# Altium schematic symbol library Control_Module_Symbols.SchLib: 30 symbols
Pins are listed as number, name and electrical type; pins without a type are passive.

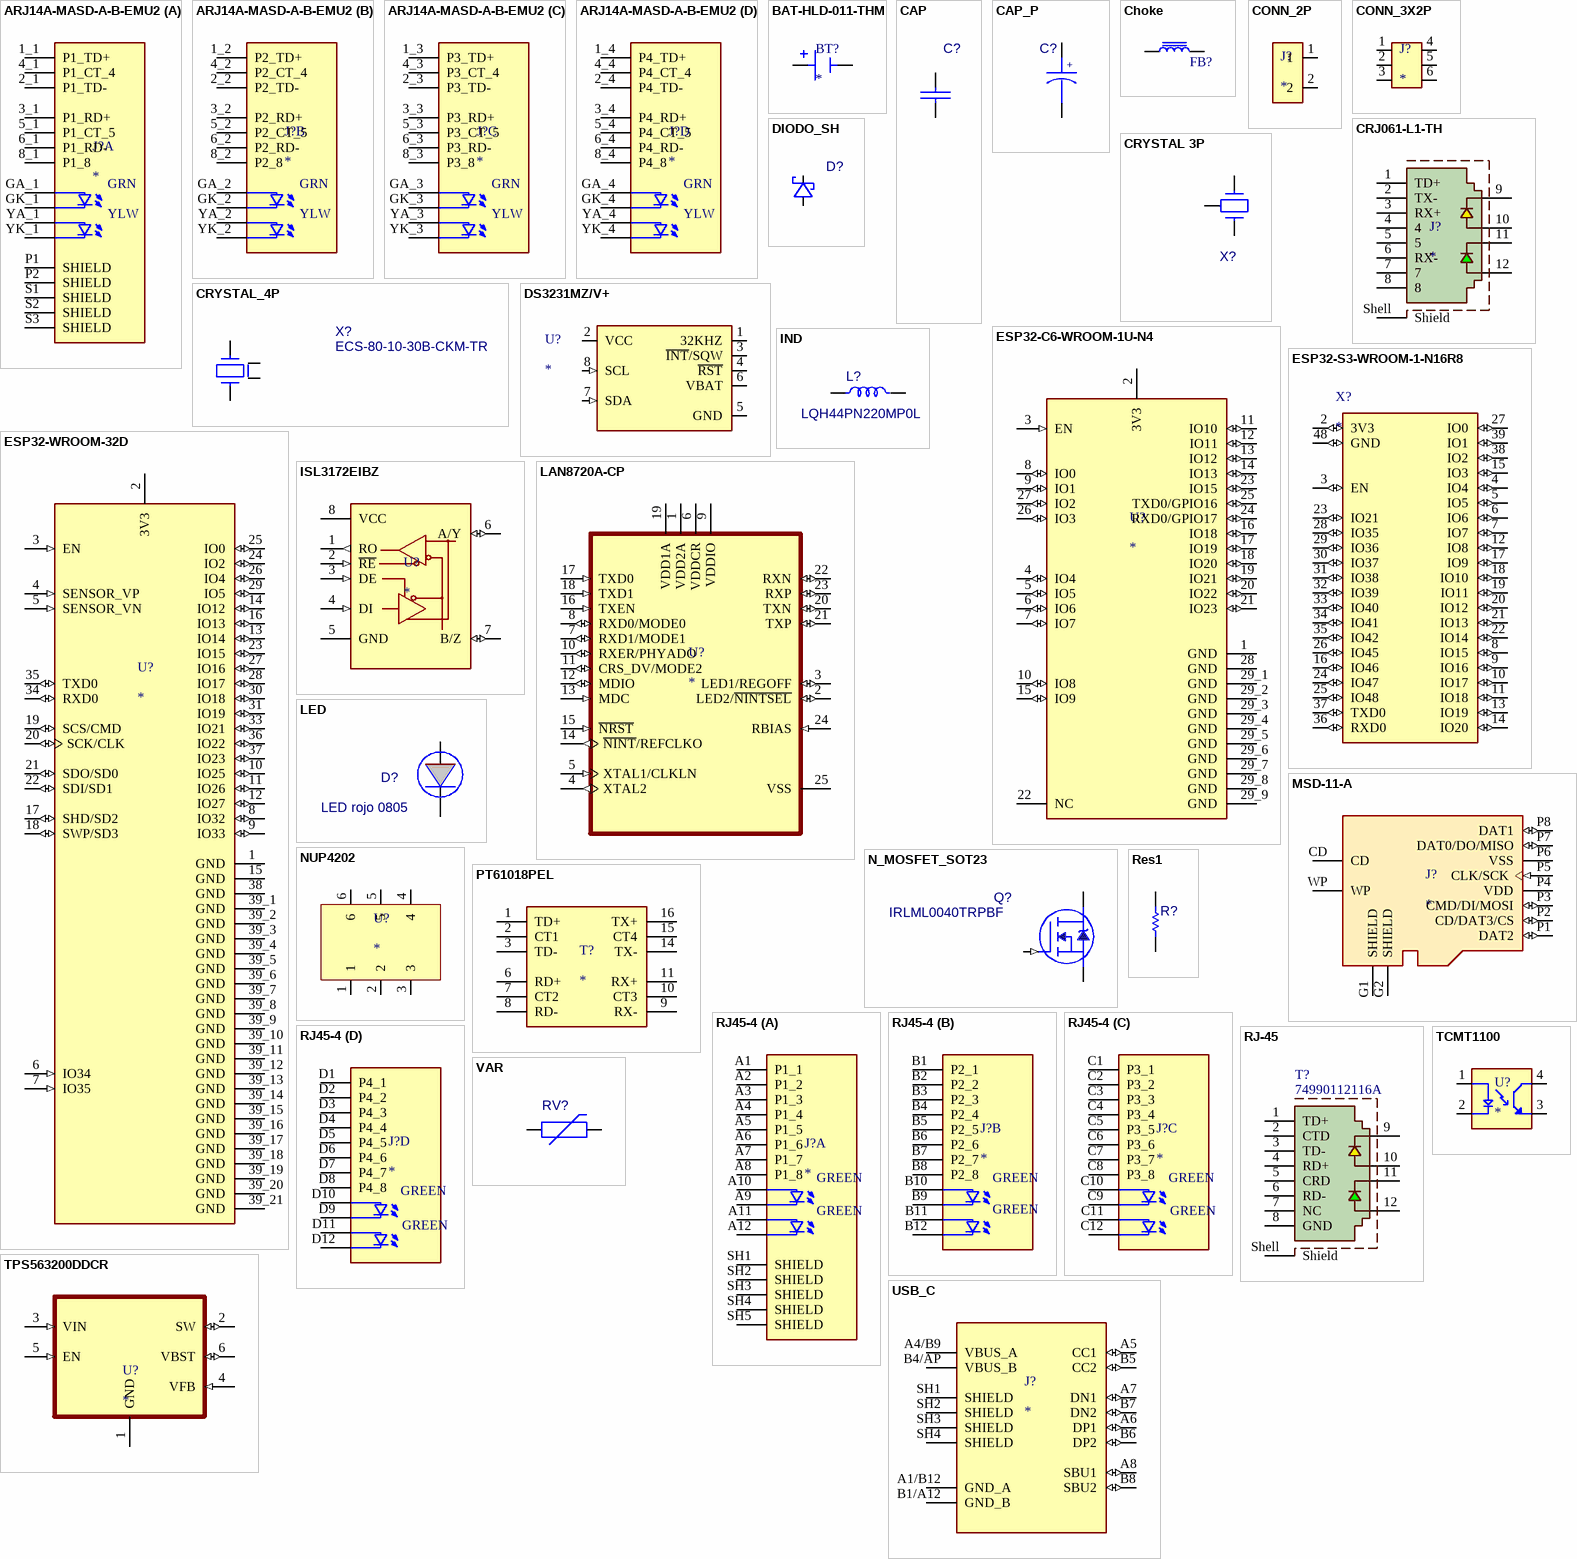
[diagram p0: symbols ARJ14A-MASD-A-B-EMU2 to VAR]

## ARJ14A-MASD-A-B-EMU2
designator J?
4 Port RJ45 Magjack Connector Through Hole 10/100 Base-T, AutoMDIX; MF: Abracon LLC; MP: ARJ14A-MASD-A-B-EMU2; SnapEDA_Link: https://www.snapeda.com/parts/ARJ14A-MASD-A-B-EMU2/Abracon/view-part/?ref=snap; Package: None; Value: *; Check_prices: https://www.snapeda.com/parts/ARJ14A-MASD-A-B-EMU2/Abracon/view-part/?ref=eda
footprint ABRACON_ARJ14A-MASD-A-B-EMU2
part A pins: 1_1 P1_TD+, 2_1 P1_TD-, 3_1 P1_RD+, 4_1 P1_CT_4, 5_1 P1_CT_5, 6_1 P1_RD-, 8_1 P1_8, GA_1, GK_1, P1 SHIELD, P2 SHIELD, S1 SHIELD, S2 SHIELD, S3 SHIELD, YA_1, YK_1
part B pins: 1_2 P2_TD+, 2_2 P2_TD-, 3_2 P2_RD+, 4_2 P2_CT_4, 5_2 P2_CT_5, 6_2 P2_RD-, 8_2 P2_8, GA_2, GK_2, YA_2, YK_2
part C pins: 1_3 P3_TD+, 2_3 P3_TD-, 3_3 P3_RD+, 4_3 P3_CT_4, 5_3 P3_CT_5, 6_3 P3_RD-, 8_3 P3_8, GA_3, GK_3, YA_3, YK_3
part D pins: 1_4 P4_TD+, 2_4 P4_TD-, 3_4 P4_RD+, 4_4 P4_CT_4, 5_4 P4_CT_5, 6_4 P4_RD-, 8_4 P4_8, GA_4, GK_4, YA_4, YK_4
part A text: GRN; YLW
part B text: GRN; YLW
part C text: GRN; YLW
part D text: GRN; YLW

## BAT-HLD-011-THM
designator BT?
Battery Holder Coin 20 SMT Nickel T&R; MF: TE Connectivity; MP: BAT-HLD-011-THM; SnapEDA_Link: https://www.snapeda.com/parts/BAT-HLD-011-THM/TE+Connectivity/view-part/?ref=snap; Package: None; Value: *; Check_prices: https://www.snapeda.com/parts/BAT-HLD-011-THM/TE+Connectivity/view-part/?ref=eda
footprint BAT_BAT-HLD-011-THM
pins: N, P

## CAP
designator C?
Non Polarized Capacitor
pins: 1, 2

## CAP_P
designator C?
Polarized Capacitor
pins: 1, 2
text: +

## Choke
designator FB?
High Frequency EMI Suppression Ferrite Bead; Manufacturer Part Number: 742863160; Manufacturer: Wurth Elektronik; Match Code: WE-CBF HF; Case/Size Code: 0603; DC Resistance: 0.22Ohm; Impedance @100MHz: 600Ohm; Impedance @1GHz: 800Ohm; Impedance Max: 950Ohm; Impedance Max Test Condition: 600MHz; Rated Current: 0.5A; Type: High Current; Category: Ferrites for PCB Assembly; ComponentLink1Description: Website Link; ComponentLink1URL: https://www.we-online.com/redexpert/article/742863160?ad; ComponentLink2Description: Datasheet Link; ComponentLink2URL: https://www.we-online.com/redexpert/spec/742863160?ad; Mount: Surface Mount; Operating Temperature Max: 125°C; Operating Temperature Min: -55°C; Packaging: Tape and Reel; Length: 1.6mm; Width: 0.8mm; Height: 0.8mm
simulation model 0603_742863160_600ohm
pins: 1, 2

## CONN_2P
designator J?
pins: 1, 2

## CONN_3X2P
designator J?
pins: 1, 2, 3, 4, 5, 6

## CRJ061-L1-TH
designator J?
8P8C, Single Port, Vertical, Shielded, LED, Through Hole, RJ45 Modular Connector; MF: Same Sky; MP: CRJ061-L1-TH; SnapEDA_Link: https://www.snapeda.com/parts/CRJ061-L1-TH/Same+Sky/view-part/?ref=snap; Package: None; Value: *; Check_prices: https://www.snapeda.com/parts/CRJ061-L1-TH/Same+Sky/view-part/?ref=eda
footprint CUI_CRJ061-L1-TH
pins: 1 TD+, 2 TX-, 3 RX+, 4, 5, 6 RX-, 7, 8, 9, 10, 11, 12, Shell Shield

## CRYSTAL 3P
designator X?
Crystal 2 Vias + GND
pins: 1, 2, 3

## CRYSTAL_4P
designator X?, comment ECS-80-10-30B-CKM-TR
Crystal 4 Vias + GND
pins: 1, 2, 3, 4

## DIODO_SH
designator D?
Diode Shottky
pins: 1 A, 2 K

## DS3231MZ/V+
designator U?
±5ppm, I2C Real-Time Clock; MF: Analog Devices; MP: DS3231MZ/V+; SnapEDA_Link: https://www.snapeda.com/parts/DS3231MZ/V+/Analog+Devices/view-part/?ref=snap; Package: SOIC-8 Maxim; Value: *; Check_prices: https://www.snapeda.com/parts/DS3231MZ/V+/Analog+Devices/view-part/?ref=eda
footprint 21-0041B_8
pins: 1 32KHZ, 2 VCC (power), 3 ~{INT}/SQW, 4 ~{RST}, 5 GND (power), 6 VBAT (power), 7 SDA (in), 8 SCL (in)

## ESP32-C6-WROOM-1U-N4
designator U?
802.15.4, Bluetooth, WiFi 802.11ax, Bluetooth v5.3, ZigbeeÂ® Transceiver Module 2.4GHz Antenna Not Included, U.FL Surface Mount; MF: Espressif Systems; MP: ESP32-C6-WROOM-1U-N4; SnapEDA_Link: https://www.snapeda.com/parts/ESP32-C6-WROOM-1U-N4/Espressif+Systems/view-part/?ref=snap; Package: SMD-37 Espressif Systems; Value: *; Check_prices: https://www.snapeda.com/parts/ESP32-C6-WROOM-1U-N4/Espressif+Systems/view-part/?ref=eda
footprint XCVR_ESP32-C6-WROOM-1U-N4
pins: 1 GND (power), 2 3V3 (power), 3 EN (in), 4 IO4 (io), 5 IO5 (io), 6 IO6 (io), 7 IO7 (io), 8 IO0 (io), 9 IO1 (io), 10 IO8 (io), 11 IO10 (io), 12 IO11 (io), 13 IO12 (io), 14 IO13 (io), 15 IO9 (io), 16 IO18 (io), 17 IO19 (io), 18 IO20 (io), 19 IO21 (io), 20 IO22 (io), 21 IO23 (io), 22 NC, 23 IO15 (io), 24 RXD0/GPIO17 (io), 25 TXD0/GPIO16 (io), 26 IO3 (io), 27 IO2 (io), 28 GND (power), 29_1 GND (power), 29_2 GND (power), 29_3 GND (power), 29_4 GND (power), 29_5 GND (power), 29_6 GND (power), 29_7 GND (power), 29_8 GND (power), 29_9 GND (power)

## ESP32-S3-WROOM-1-N16R8
designator X?
Bluetooth, WiFi 802.11b/g/n, Bluetooth v5.0 Transceiver Module 2.4GHz PCB Trace Surface Mount; MF: Espressif Systems; MP: ESP32-S3-WROOM-1-N16R8; SnapEDA_Link: https://www.snapeda.com/parts/ESP32-S3-WROOM-1-N16R8/Espressif+Systems/view-part/?ref=snap; Package: NON STANDARD Espressif Systems; Value: *; Check_prices: https://www.snapeda.com/parts/ESP32-S3-WROOM-1-N16R8/Espressif+Systems/view-part/?ref=eda
footprint ESP32S3WROOM1N8R2
pins: 1 GND (io), 2 3V3 (io), 3 EN (io), 4 IO4 (io), 5 IO5 (io), 6 IO6 (io), 7 IO7 (io), 8 IO15 (io), 9 IO16 (io), 10 IO17 (io), 11 IO18 (io), 12 IO8 (io), 13 IO19 (io), 14 IO20 (io), 15 IO3 (io), 16 IO46 (io), 17 IO9 (io), 18 IO10 (io), 19 IO11 (io), 20 IO12 (io), 21 IO13 (io), 22 IO14 (io), 23 IO21 (io), 24 IO47 (io), 25 IO48 (io), 26 IO45 (io), 27 IO0 (io), 28 IO35 (io), 29 IO36 (io), 30 IO37 (io), 31 IO38 (io), 32 IO39 (io), 33 IO40 (io), 34 IO41 (io), 35 IO42 (io), 36 RXD0 (io), 37 TXD0 (io), 38 IO2 (io), 39 IO1 (io), 40 GND (io), 41 GND (io), 42 GND (io), 43 GND (io), 44 GND (io), 45 GND (io), 46 GND (io), 47 GND (io), 48 GND (io), 49 GND (io)

## ESP32-WROOM-32D
designator U?
Bluetooth, WiFi 802.11b/g/n, Bluetooth v4.2 +EDR, Class 1, 2 and 3 Transceiver Module 2.4GHz ~ 2.5GHz Integrated; MF: Espressif Systems; MP: ESP32-WROOM-32D; SnapEDA_Link: https://www.snapeda.com/parts/ESP32-WROOM-32D/Espressif+Systems/view-part/?ref=snap; Package: Non Standard Espressif Systems; Value: *; Check_prices: https://www.snapeda.com/parts/ESP32-WROOM-32D/Espressif+Systems/view-part/?ref=eda
footprint MODULE_ESP32-WROOM-32D
pins: 1 GND (power), 2 3V3 (power), 3 EN (in), 4 SENSOR_VP (in), 5 SENSOR_VN (in), 6 IO34 (in), 7 IO35 (in), 8 IO32 (io), 9 IO33 (io), 10 IO25 (io), 11 IO26 (io), 12 IO27 (io), 13 IO14 (io), 14 IO12 (io), 15 GND (power), 16 IO13 (io), 17 SHD/SD2 (io), 18 SWP/SD3 (io), 19 SCS/CMD (io), 20 SCK/CLK (io), 21 SDO/SD0 (io), 22 SDI/SD1 (io), 23 IO15 (io), 24 IO2 (io), 25 IO0 (io), 26 IO4 (io), 27 IO16 (io), 28 IO17 (io), 29 IO5 (io), 30 IO18 (io), 31 IO19 (io), 33 IO21 (io), 34 RXD0 (io), 35 TXD0 (io), 36 IO22 (io), 37 IO23 (io), 38 GND (power), 39_1 GND (power), 39_2 GND (power), 39_3 GND (power), 39_4 GND (power), 39_5 GND (power), 39_6 GND (power), 39_7 GND (power), 39_8 GND (power), 39_9 GND (power), 39_10 GND (power), 39_11 GND (power), 39_12 GND (power), 39_13 GND (power), 39_14 GND (power), 39_15 GND (power), 39_16 GND (power), 39_17 GND (power), 39_18 GND (power), 39_19 GND (power), 39_20 GND (power), 39_21 GND (power)

## IND
designator L?, comment LQH44PN220MP0L
Inductor
pins: 1, 2

## ISL3172EIBZ
designator U?
1/1 Transceiver Half RS422, RS485 8-SOIC; MF: Renesas Electronics America Inc; MP: ISL3172EIBZ; SnapEDA_Link: https://www.snapeda.com/parts/ISL3172EIBZ/Renesas/view-part/?ref=snap; Package: SOIC-8 Renesas; Value: *; Check_prices: https://www.snapeda.com/parts/ISL3172EIBZ/Renesas/view-part/?ref=eda
footprint SOIC127P600X175-8N
pins: 1 RO (out), 2 ~{RE} (in), 3 DE (in), 4 DI (in), 5 GND (power), 6 A/Y (io), 7 B/Z (io), 8 VCC (power)

## LAN8720A-CP
designator U?
PHY 1-CH 10Mbps/100Mbps 2.5V/3.3V 24-Pin VQFN EP Tray; MF: Microchip Technology; MP: LAN8720A-CP; SnapEDA_Link: https://www.snapeda.com/parts/LAN8720A-CP/Microchip/view-part/?ref=snap; Package: VFQFN-24 Microchip Technology; Value: *; Check_prices: https://www.snapeda.com/parts/LAN8720A-CP/Microchip/view-part/?ref=eda
footprint QFN50P400X400X100-25N
pins: 1 VDD2A (power), 2 LED2/~{NINTSEL} (io), 3 LED1/REGOFF (io), 4 XTAL2 (out), 5 XTAL1/CLKLN (in), 6 VDDCR (power), 7 RXD1/MODE1 (io), 8 RXD0/MODE0 (io), 9 VDDIO (power), 10 RXER/PHYADO (io), 11 CRS_DV/MODE2 (io), 12 MDIO (io), 13 MDC (in), 14 ~{NINT}/REFCLKO (out), 15 ~{NRST} (in), 16 TXEN (in), 17 TXD0 (in), 18 TXD1 (in), 19 VDD1A (power), 20 TXN (io), 21 TXP (io), 22 RXN (io), 23 RXP (io), 24 RBIAS (in), 25 VSS (power)

## LED
designator D?, comment LED rojo 0805
LED
pins: 1 A, 2 K

## MSD-11-A
designator J?
Micro SD Card Connector, 8 Positions, Connector and Ejector, Push In, Auto Eject Out, Surface Mount, 1.85 mm Heaight Above Board, Gold Flash, JLCPCB PART C693845; MF: Same Sky; MP: MSD-11-A; SnapEDA_Link: https://www.snapeda.com/parts/MSD-11-A/Same+Sky/view-part/?ref=snap; Package: None; Value: *; Check_prices: https://www.snapeda.com/parts/MSD-11-A/Same+Sky/view-part/?ref=eda
footprint CUI_MSD-11-A
pins: CD, G1 SHIELD (power), G2 SHIELD (power), P1 DAT2 (io), P2 CD/DAT3/CS (io), P3 CMD/DI/MOSI (io), P4 VDD (power), P5 CLK/SCK (in), P6 VSS (power), P7 DAT0/DO/MISO (io), P8 DAT1 (io), WP

## N_MOSFET_SOT23
designator Q?, comment IRLML0040TRPBF
Mosfet N-Ch
pins: 1 GATE (in), 2 SOURCE, 3 DRAIN

## NUP4202
designator U?
6A 20V 6V Unidirectional 5V SOT-363 ESD and Surge Protection
pins: 1, 2, 3, 4, 5, 6

## PT61018PEL
designator T?
LAN Transformer, 10/100 Base-Tx, OP -40C to +85C, CUT TAPE | Bourns PT61018PEL; SnapEDA_Link: https://www.snapeda.com/parts/PT61018PEL/Bourns/view-part/?ref=snap; Package: SMD-16 Bourns; Value: *; MF: Bourns; MP: PT61018PEL; Check_prices: https://www.snapeda.com/parts/PT61018PEL/Bourns/view-part/?ref=eda
footprint XFMR_PT61018PEL
pins: 1 TD+, 2 CT1, 3 TD-, 6 RD+, 7 CT2, 8 RD-, 9 RX-, 10 CT3, 11 RX+, 14 TX-, 15 CT4, 16 TX+

## Res1
designator R?
Resistor
pins: 1, 2

## RJ45-4
designator J?
MP: 1888251-4; Package: None; Price: None; Value: *; Availability: Unavailable
footprint TE_1888251-4
part A pins: A1 P1_1, A2 P1_2, A3 P1_3, A4 P1_4, A5 P1_5, A6 P1_6, A7 P1_7, A8 P1_8, A9 P1_CATHODE_GRN1, A10 P1_ANODE_GRN1, A11 P1_ANODE_GRN2, A12 P1_CATHODE_GRN2, SH1 SHIELD, SH2 SHIELD, SH3 SHIELD, SH4 SHIELD, SH5 SHIELD
part B pins: B1 P2_1, B2 P2_2, B3 P2_3, B4 P2_4, B5 P2_5, B6 P2_6, B7 P2_7, B8 P2_8, B9 P2_CATHODE_GRN1, B10 P2_ANODE_GRN1, B11 P2_ANODE_GRN2, B12 P2_CATHODE_GRN2
part C pins: C1 P3_1, C2 P3_2, C3 P3_3, C4 P3_4, C5 P3_5, C6 P3_6, C7 P3_7, C8 P3_8, C9 P3_CATHODE_GRN1, C10 P3_ANODE_GRN1, C11 P3_ANODE_GRN2, C12 P3_CATHODE_GRN2
part D pins: D1 P4_1, D2 P4_2, D3 P4_3, D4 P4_4, D5 P4_5, D6 P4_6, D7 P4_7, D8 P4_8, D9 P4_CATHODE_GRN1, D10 P4_ANODE_GRN1, D11 P4_ANODE_GRN2, D12 P4_CATHODE_GRN2
part A text: GREEN
part B text: GREEN
part C text: GREEN
part D text: GREEN

## RJ-45
designator T?, comment 74990112116A
WE-RJ45 LAN Transformer, THT, 1 Port, 10/100 Base-T, Tab Up; Manufacturer: Wurth Elektronik; LED: green-yellow; Number of Ports: 1; PoE: non-PoE; Shield Tabs: Yes; USB: No USB; Manufacturer Part Number: 74990112116A; Category: Filtered Connectors; Match Code: WE-RJ45 LAN; ComponentLink1Description: Website Link; ComponentLink1URL: https://www.we-online.com/redexpert/article/74990112116A?ad; ComponentLink2Description: Datasheet Link; ComponentLink2URL: https://www.we-online.com/redexpert/spec/74990112116A?ad; Mount: Through Hole; Min Operating Temperature: -40°C; Max Operating Temperature: 85°C; Packaging: Tube; Length: 25.3mm; Width: 16.2mm; Height: 13.5mm; Data Rate: 10/100 Base-T; Tab: Up
footprint 74990112116A
pins: 1 TD+, 2 CTD, 3 TD-, 4 RD+, 5 CRD, 6 RD-, 7 NC, 8 GND, 9, 10, 11, 12, Shell Shield

## TCMT1100
designator U?
Optoisolator Transistor Output 3750Vrms 1 Channel 4-SOP; MF: Vishay Semiconductor; MP: TCMT1100; SnapEDA_Link: https://www.snapeda.com/parts/TCMT1100/Vishay/view-part/?ref=snap; Package: SOP-4 Vishay Semiconductor; Value: *; Check_prices: https://www.snapeda.com/parts/TCMT1100/Vishay/view-part/?ref=eda
footprint SOIC127P700X230-4N
pins: 1 A, 2 C, 3 ET, 4 CT

## TPS563200DDCR
designator U?
17 V Input, 3A Synchronous Step-Down Regulator in SOT-23 with Advanced Eco-modeâ„¢; MF: Texas Instruments; MP: TPS563200DDCR; SnapEDA_Link: https://www.snapeda.com/parts/TPS563200DDCR/Texas+Instruments/view-part/?ref=snap; Package: SOT-23-THN-6 Texas Instruments; Value: *; Check_prices: https://www.snapeda.com/parts/TPS563200DDCR/Texas+Instruments/view-part/?ref=eda
footprint SOT95P280X110-6N
pins: 1 GND (power), 2 SW (io), 3 VIN (in), 4 VFB (in), 5 EN (in), 6 VBST (io)

## USB_C
designator J?
USB Type C 2.0 Conn Rec Mid-Mount One Ro; MF: TE Connectivity; MP: 2340901-1; SnapEDA_Link: https://www.snapeda.com/parts/2340901-1/TE+Connectivity/view-part/?ref=snap; Package: None; Value: *; Check_prices: https://www.snapeda.com/parts/2340901-1/TE+Connectivity/view-part/?ref=eda
footprint TE_2340901-1
pins: A1/B12 GND_A (power), A4/B9 VBUS_A (power), A5 CC1 (io), A6 DP1 (io), A7 DN1 (io), A8 SBU1 (io), B1/A12 GND_B (power), B4/AP VBUS_B (power), B5 CC2 (io), B6 DP2 (io), B7 DN2 (io), B8 SBU2 (io), SH1 SHIELD, SH2 SHIELD, SH3 SHIELD, SH4 SHIELD

## VAR
designator RV?
Varistor
pins: 1, 2